# Altium footprint library SW-TH_SS-12D07-X-X_2021-01-11.PcbLib: 1 footprints
Each footprint in its own frame and in the unit in brackets; x right, y up, seen from the top. Pads: shape width x height; smd on the part's side, far side on the other; paste and mask are expansions set on the pad; w line width, h text height; cw(c..) or ccw(c..) is an arc to the next point about the centre after c.
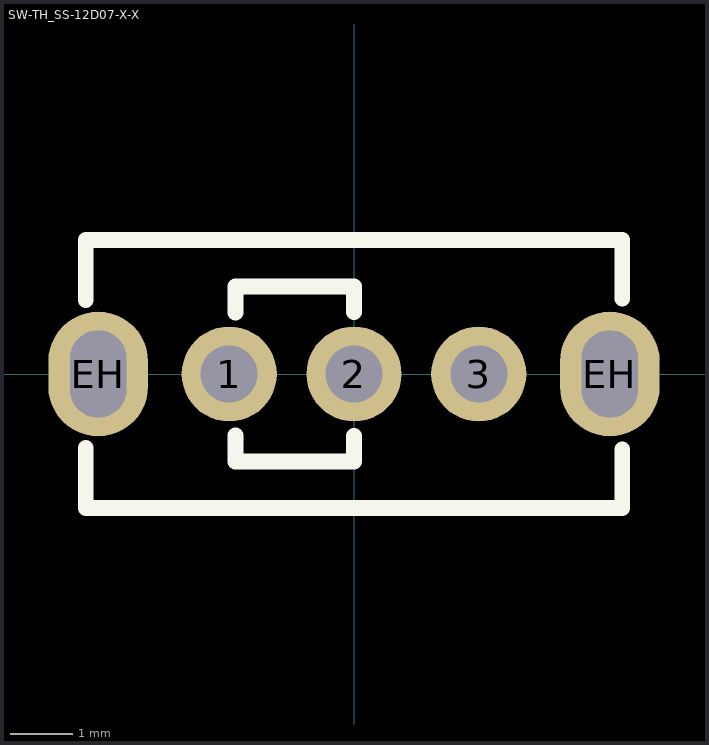
[diagram p0: the footprint, top view; thin cyan lines are the x and y axes]

## SW-TH_SS-12D07-X-X [mil]
pads (5):
  round 60 hole 36: 1(-78.74,0) 2(0,0) 3(78.74,0)
  oval 62.99x78.74 hole 35.43 slot 55.12 at 90 deg: EH(-161.42,0) EH(161.42,0)
Top Overlay:
  lines w10: -169.29,-46.71 -169.29,-84.65 169.29,-84.64 169.29,-47.7 ; -169.29,46.71 -169.29,84.65 169.29,84.65 169.29,47.7 ; -74.8,-38.9 -74.8,-55.12 0,-55.12 0,-39.1 ; -74.8,38.9 -74.8,55.12 0,55.12 0,39.1